# EAGLE library part NX3L4357GM,115 (library LinnesLab-DigitalIC)
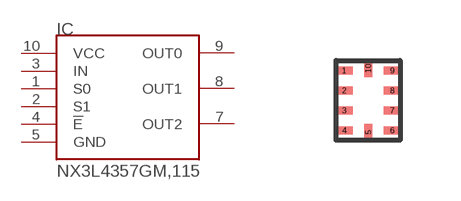
[diagram p21: symbol with the pads of 10-XQFN(1.55X2); footprint 10-XQFN(1.55X2)]

Designator prefix IC

## NX3L4357GM,115  [10-XQFN(1.55X2)]
1  S0
2  S1
3  IN
4  !E
5  GND
7  OUT2
8  OUT1
9  OUT0
10  VCC

## Footprint 10-XQFN(1.55X2) (pad centres in mm)
smd 0.43 x 0.2: 1 -0.6,0.75; 2 -0.6,0.25; 3 -0.6,-0.25; 4 -0.6,-0.75; 6 0.6,-0.75; 7 0.6,-0.25; 8 0.6,0.25; 9 0.6,0.75
smd 0.2 x 0.43: 5 0,-0.8; 10 0,0.8